# Altium footprint library Specific_Manufacturers.PcbLib: 21 footprints (part 1 of 2)
Each footprint in its own frame and in the unit in brackets; x right, y up, seen from the top. Pads: shape width x height; smd on the part's side, far side on the other; paste and mask are expansions set on the pad; w line width, h text height; cw(c..) or ccw(c..) is an arc to the next point about the centre after c.
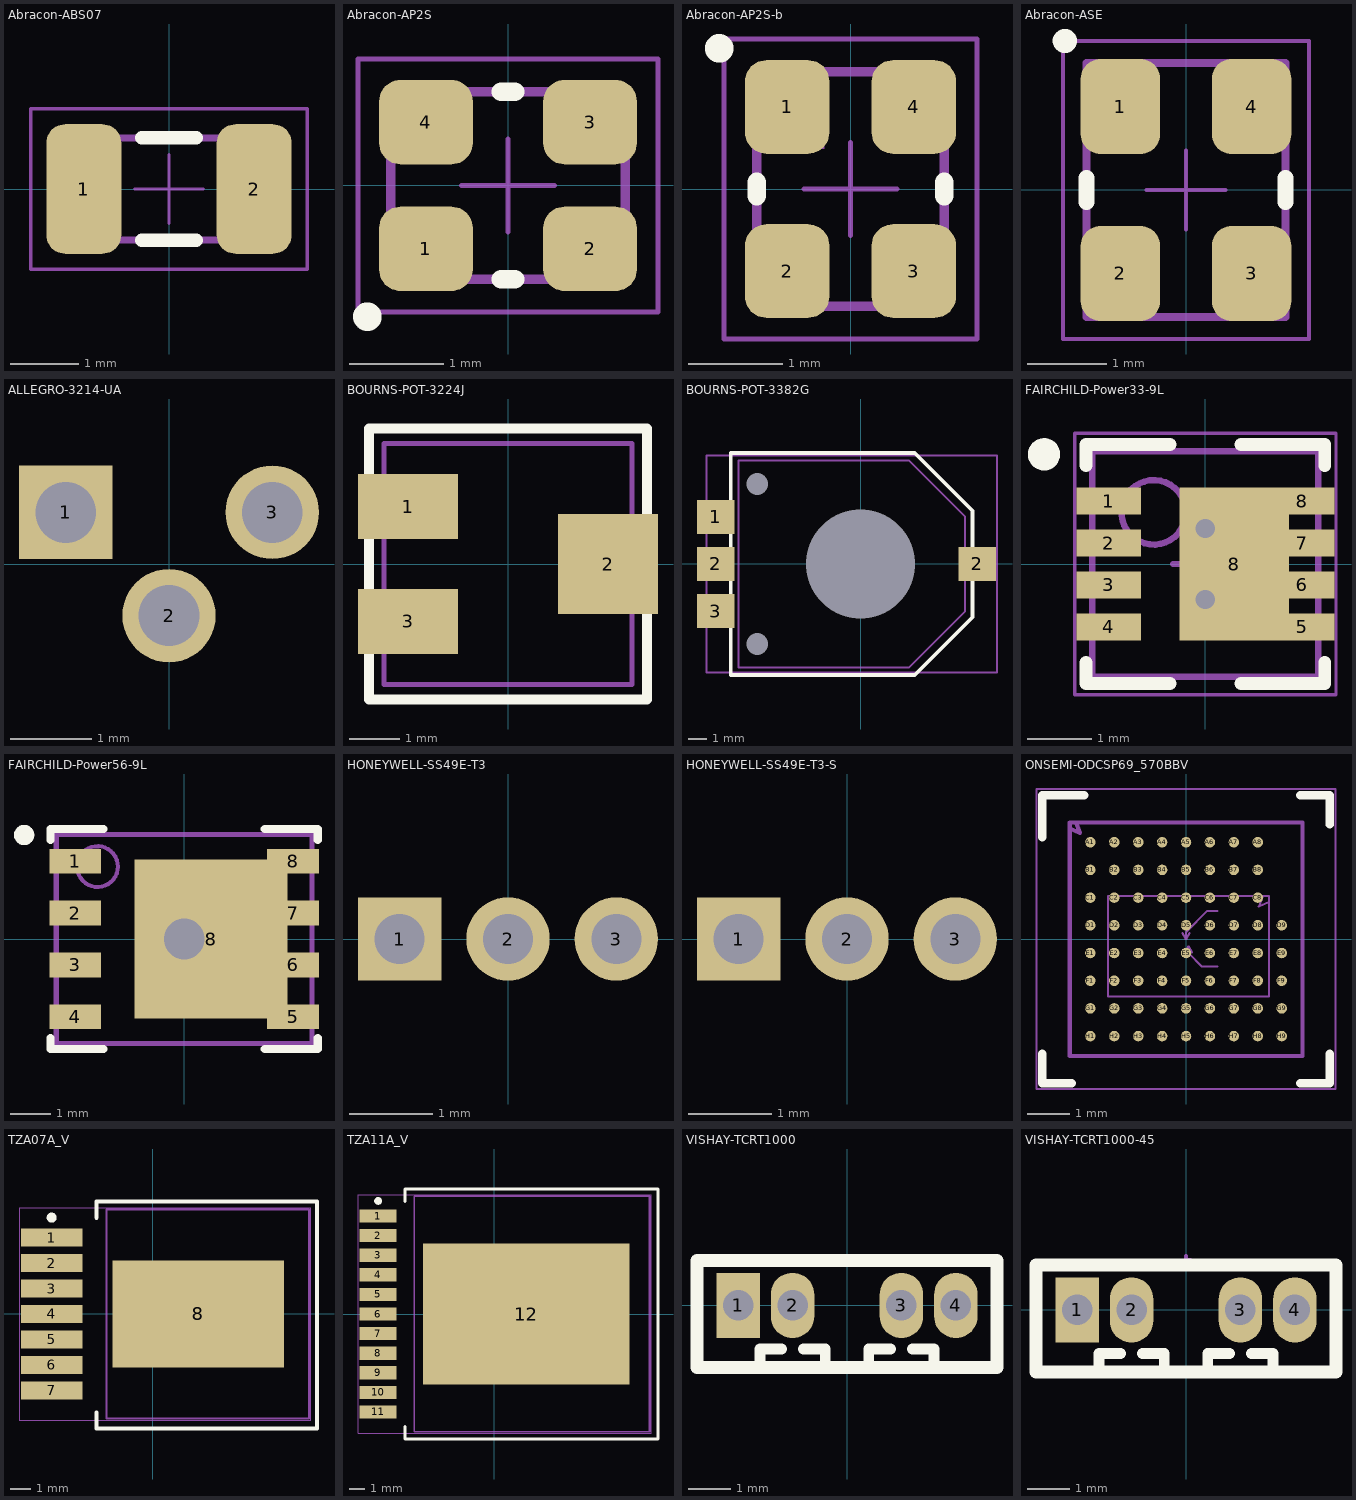
[diagram p0: the footprints below, top view; thin cyan lines are the x and y axes]

## Abracon-ABS07 [mm] "LOW PROFILE CRYSTAL"
height 0.9
pads (3):
  rrect50% 1.1x1.9 smd: 1(-1.25,0) 2(1.25,0)
  rect 0.6x1.3 on Mech3: ""(-1.2,0)
Top Overlay:
  lines w0.2: -0.4,-0.75 0.4,-0.75 ; -0.4,0.75 0.4,0.75
TopBody:
  lines w0.1: -1.6,-0.75 1.6,-0.75 1.6,0.75 -1.6,0.75 -1.6,-0.75
TopCourtyard:
  lines w0.05: -0.5,0 0,0 ; 0,-0.5 0,0 ; 0,0.5 0,0 ; 0.5,0 0,0 ; -2.025,-1.175 2.025,-1.175 2.025,1.175 -2.025,1.175 -2.025,-1.175
3D body: height 0.9, standoff 0, extent -1.6,-0.75 1.6,0.75

## Abracon-AP2S [mm] "Programmable Crystal Oscillator"
height 0.9
pads (4):
  rrect50% 1x0.9 smd: 1(-0.875,-0.675) 2(0.875,-0.675) 3(0.875,0.675) 4(-0.875,0.675)
Top Overlay:
  circle w0.254: c-1.5,-1.4 r0.025
  lines w0.2: -0.075,-1 0.075,-1 ; -0.075,1 0.075,1
TopBody:
  lines w0.1: -1.25,-1 1.25,-1 1.25,1 -1.25,1 -1.25,-1
TopCourtyard:
  lines w0.05: -0.5,0 0.5,0 ; 0,-0.5 0,0.5 ; -1.6,-1.35 1.6,-1.35 1.6,1.35 -1.6,1.35 -1.6,-1.35
3D body: height 0.9, standoff 0, extent -1.25,-1 1.25,1

## Abracon-AP2S-b [mm] "Programmable Crystal Oscillator, version b : To have the pin 1 at the right position"
height 0.9
pads (5):
  rrect50% 0.9x1 smd: 1(-0.675,0.875) 2(-0.675,-0.875) 3(0.675,-0.875) 4(0.675,0.875)
  rect 0.7x0.8 on Mech3: ""(-0.625,0.825)
Top Overlay:
  circle w0.254: c-1.4,1.5 r0.025
  lines w0.2: -1,-0.075 -1,0.075 ; 1,-0.075 1,0.075
TopBody:
  lines w0.1: -1,-1.25 -1,1.25 1,1.25 1,-1.25 -1,-1.25
TopCourtyard:
  lines w0.05: -0.5,0 0.5,0 ; 0,-0.5 0,0.5 ; -1.35,-1.6 1.35,-1.6 1.35,1.6 -1.35,1.6 -1.35,-1.6
3D body: height 0.9, standoff 0, extent -1,-1.25 1,1.25

## Abracon-ASE [mm] "Crystal Clock Oscillator"
height 1
pads (5):
  rrect50% 1x1.2 smd: 1(-0.825,1.05) 2(-0.825,-1.05) 3(0.825,-1.05) 4(0.825,1.05)
  rect 0.65x0.9 on Mech3: ""(-0.825,1.05)
Top Overlay:
  circle w0.254: c-1.525,1.875 r0.025
  lines w0.2: -1.25,-0.15 -1.25,0.15 ; 1.25,-0.15 1.25,0.15
TopBody:
  lines w0.1: -1.25,-1.6 1.25,-1.6 1.25,1.6 -1.25,1.6 -1.25,-1.6
TopCourtyard:
  lines w0.05: -0.5,0 0.5,0 ; 0,-0.5 0,0.5 ; -1.55,-1.875 -1.55,1.875 1.55,1.875 1.55,-1.875 -1.55,-1.875
3D body: height 1, standoff 0, extent -1.25,-1.6 1.25,1.6

## ALLEGRO-3214-UA [mm] "Micropower ultra-sensitive Hall-Effect Switches, UA package"
pads (3):
  rect 1.15x1.15 hole 0.75: 1(-1.27,0.635)
  round 1.15 hole 0.75: 2(0,-0.635) 3(1.27,0.635)
TopBody:
  lines w0.01: -1.51,0.415 -1.51,0.855 -1.03,0.855 -1.03,0.415 -1.51,0.415 ; -0.24,-0.855 0.24,-0.855 0.24,-0.415 -0.24,-0.415 -0.24,-0.855 ; 1.03,0.415 1.03,0.855 1.51,0.855 1.51,0.415 1.03,0.415
3D body "A3214.STEP": height 4.5, standoff -0.74, extent -2.085,-0.855 2.085,2.975
3D body: height 0.2, standoff -12, extent -0.24,-0.855 0.24,-0.415
3D body: height 0.2, standoff -12, extent -1.51,0.415 -1.03,0.855
3D body: height 0.2, standoff -12, extent 1.03,0.415 1.51,0.855

## BOURNS-POT-3224J [mm] "3224J- 4 mm SMD Trimpot Potentiometer"
pads (3):
  rect 2x1.3 smd: 1(-2,1.15) 3(-2,-1.15)
  rect 2x2 smd: 2(2,0)
Top Overlay:
  lines w0.2: -2.777,-2.713 -2.777,2.713 2.777,2.713 2.777,-2.713 -2.777,-2.713
TopBody:
  lines w0.1: -2.477,-2.413 -2.477,2.413 2.476,2.413 2.476,-2.413 -2.477,-2.413
TopCourtyard:
  lines w0.1: -2.751,-2.688 2.751,-2.688 2.751,2.688 -2.751,2.688 -2.751,-2.688
3D body "BournsPot1563553.stp": height 3.74, standoff 0.02, extent -2.477,-2.413 2.476,2.413

## BOURNS-POT-3382G [mm] "3382 - 12 mm Rotary Position Sensor"
pads (7):
  rect 2x1.8 smd: 1(-7.7,2.5) 2(-7.7,0) 2(6.2,0) 3(-7.7,-2.5)
  round 0 hole 1.15 unplated mask+0.7: S(-5.49,-4.25) S(-5.49,4.25)
  round 0 hole 5.8 unplated mask+3.1: S(0,0)
Top Overlay:
  lines w0.2: -6.9,-5.9 2.875,-5.9 5.94,-2.835 5.94,2.835 2.875,5.9 -6.9,5.9 -6.9,-5.9
TopBody:
  lines w0.1: -6.5,-5.5 -6.5,5.5 2.575,5.5 5.54,2.535 5.54,-2.535 2.575,-5.5 -6.5,-5.5
TopCourtyard:
  lines w0.1: -8.205,-5.775 7.245,-5.775 7.245,5.775 -8.205,5.775 -8.205,-5.775
3D body "06-potentiometre.stp": height 2.11, standoff 0, extent -7.93,-5.5 6.97,5.5

## FAIRCHILD-Power33-9L [mm] "QFN, 8-Leads, Body 3.30x3.30mm, Pitch 0.65mm, Thermal Pad, IPC High Density"
height 0.8
pads (9):
  rect 1x0.42 smd: 1(-1.5,0.975) 2(-1.5,0.325) 3(-1.5,-0.325) 4(-1.5,-0.975) 5(1.5,-0.975) 6(1.5,-0.325) 7(1.5,0.325) 8(1.5,0.975)
  rect 1.7x2.37 smd: 8(0.45,0)
via 0,-0.55 diameter 0.6 hole 0.3
via 0,0.55 diameter 0.6 hole 0.3
Top Overlay:
  circle w0.25: c-2.5,1.7 r0.125
  lines w0.2: -1.85,-1.525 -1.85,-1.85 -0.55,-1.85 ; -1.85,1.525 -1.85,1.85 -0.55,1.85 ; 0.55,-1.85 1.85,-1.85 1.85,-1.525 ; 0.55,1.85 1.85,1.85 1.85,1.525
M-CAD:
  lines w0.1: 0,-0.4 0,0 0.55,0 0.55,-0.4 0,-0.4
TopBody:
  circle w0.1: c-0.8,0.8 r0.5
  lines w0.1: 1.751,-0.525 1.751,1.175 ; -1.75,-1.75 -1.75,1.75 1.75,1.75 1.75,-1.75 -1.75,-1.75
TopCourtyard:
  lines w0.05: -2.025,-2.025 2.025,-2.025 2.025,2.025 -2.025,2.025 -2.025,-2.025
  lines w0.1: -0.5,0 0.5,0 ; 0,-0.5 0,0.5
3D body: height 0.2, standoff 0, extent -1.75,-1.75 1.75,1.75
3D body: height 0.8, standoff 0.19, extent -1.6,-1.61 1.6,1.6
3D body: height 0.2, standoff 0, extent -1.76,0.775 -1.21,1.175
3D body: height 0.2, standoff 0, extent -1.76,0.125 -1.21,0.525
3D body: height 0.2, standoff 0, extent -1.76,-0.525 -1.21,-0.125
3D body: height 0.2, standoff 0, extent -1.76,-1.175 -1.21,-0.775
3D body: height 0.2, standoff 0, extent -0.35,-1.175 1.751,1.175

## FAIRCHILD-Power56-9L [mm] "QFN, 8-Leads, Body 6.25x5.10mm, Pitch 1.27mm, Thermal Pad, IPC High Density"
height 1.1
pads (9):
  rect 1.27x0.61 smd: 1(-2.67,1.905) 2(-2.67,0.635) 3(-2.67,-0.635) 4(-2.67,-1.905) 5(2.67,-1.905) 6(2.67,-0.635) 7(2.67,0.635) 8(2.67,1.905)
  rect 3.75x3.91 smd: 8(0.66,0)
via 0,0 diameter 1.4 hole 1
Top Overlay:
  circle w0.25: c-3.925,2.55 r0.125
  lines w0.2: -3.275,-2.425 -3.275,-2.7 -1.975,-2.7 ; -3.275,2.425 -3.275,2.7 -1.975,2.7 ; 1.975,-2.7 3.275,-2.7 3.275,-2.425 ; 1.975,2.7 3.275,2.7 3.275,2.425
TopBody:
  circle w0.1: c-2.125,1.775 r0.5
  lines w0.1: -3.125,-2.55 -3.125,2.55 3.125,2.55 3.125,-2.55 -3.125,-2.55
TopCourtyard:
  lines w0.05: -3.175,-2.6 -3.175,2.6 3.175,2.6 3.175,-2.6 -3.175,-2.6
  lines w0.1: -1,0 0,0 ; 0,-1 0,0 ; 0,1 0,0 ; 1,0 0,0
3D body: height 0.3, standoff 0, extent -1.165,-1.93 2.685,1.93
3D body: height 0.3, standoff 0, extent -3.125,0.405 -2.415,0.865
3D body: height 1.1, standoff 0.05, extent -3.12,-2.545 3.12,2.545
3D body: height 0.3, standoff 0, extent -3.125,-0.865 -2.415,-0.405
3D body: height 0.3, standoff 0, extent -3.125,1.675 -2.415,2.135
3D body: height 0.3, standoff 0, extent -3.125,-2.135 -2.415,-1.675
3D body: height 0.3, standoff 0, extent 2.415,-2.135 3.125,-1.675
3D body: height 0.3, standoff 0, extent 2.415,1.675 3.125,2.135
3D body: height 0.3, standoff 0, extent 2.415,-0.865 3.125,-0.405
3D body: height 0.3, standoff 0, extent 2.415,0.405 3.125,0.865

## HONEYWELL-SS49E-T3 [mm] "SS49 Hall-Effect Sensors' series - Style T3"
pads (3):
  rect 1x1 hole 0.6: 1(-1.3,0)
  round 1 hole 0.6: 2(0,0) 3(1.3,0)
TopBody:
  lines w0.01: -1.49,-0.15 -1.49,0.15 -1.11,0.15 -1.11,-0.15 -1.49,-0.15 ; -0.19,-0.15 0.19,-0.15 0.19,0.15 -0.19,0.15 -0.19,-0.15 ; 1.11,-0.15 1.11,0.15 1.49,0.15 1.49,-0.15 1.11,-0.15
3D body "SS49E.STEP": height 18.1, standoff -0.99, extent -2.05,-3.223 2.05,0.7
3D body: height 0.2, standoff -12, extent -0.19,-0.15 0.19,0.15
3D body: height 0.2, standoff -12, extent -1.49,-0.15 -1.11,0.15
3D body: height 0.2, standoff -12, extent 1.11,-0.15 1.49,0.15

## HONEYWELL-SS49E-T3-S [mm] "Short SS49 Hall-Effect Sensors' series - Style T3 : 1mm instead 14.99"
pads (3):
  rect 1x1 hole 0.6: 1(-1.3,0)
  round 1 hole 0.6: 2(0,0) 3(1.3,0)
TopBody:
  lines w0.01: -1.49,-0.15 -1.11,-0.15 -1.11,0.15 -1.49,0.15 -1.49,-0.15 ; -0.19,-0.15 -0.19,0.15 0.19,0.15 0.19,-0.15 -0.19,-0.15 ; 1.11,-0.15 1.49,-0.15 1.49,0.15 1.11,0.15 1.11,-0.15
3D body: height 2, standoff -1, extent 1.11,-0.15 1.49,0.15
3D body: height 2, standoff -1, extent -1.49,-0.15 -1.11,0.15
3D body: height 2, standoff -1, extent -0.19,-0.15 0.19,0.15
3D body "SS49E-S.STEP": height 4.1, standoff -1, extent -2.05,-0.91 2.05,0.69

## ONSEMI-ODCSP69_570BBV [mm] "ODCSP69 5.545x5.565, CASE 570BV, ISSUE B"
height 0.77
pads (69):
  round 0.25 smd mask+0.065: A1(-2.28,2.31) A2(-1.71,2.31) A3(-1.14,2.31) A4(-0.57,2.31) A5(0,2.31) A6(0.57,2.31) A7(1.14,2.31) A8(1.71,2.31) B1(-2.28,1.65) B2(-1.71,1.65) B3(-1.14,1.65) B4(-0.57,1.65) B5(0,1.65) B6(0.57,1.65) B7(1.14,1.65) B8(1.71,1.65) C1(-2.28,0.99) C2(-1.71,0.99) C3(-1.14,0.99) C4(-0.57,0.99) C5(0,0.99) C6(0.57,0.99) C7(1.14,0.99) C8(1.71,0.99) D1(-2.28,0.33) D2(-1.71,0.33) D3(-1.14,0.33) D4(-0.57,0.33) D5(0,0.33) D6(0.57,0.33) D7(1.14,0.33) D8(1.71,0.33) D9(2.28,0.33) E1(-2.28,-0.33) E2(-1.71,-0.33) E3(-1.14,-0.33) E4(-0.57,-0.33) E5(0,-0.33) E6(0.57,-0.33) E7(1.14,-0.33) E8(1.71,-0.33) E9(2.28,-0.33) F1(-2.28,-0.99) F2(-1.71,-0.99) F3(-1.14,-0.99) F4(-0.57,-0.99) F5(0,-0.99) F6(0.57,-0.99) F7(1.14,-0.99) F8(1.71,-0.99) F9(2.28,-0.99) G1(-2.28,-1.65) G2(-1.71,-1.65) G3(-1.14,-1.65) G4(-0.57,-1.65) G5(0,-1.65) G6(0.57,-1.65) G7(1.14,-1.65) G8(1.71,-1.65) G9(2.28,-1.65) H1(-2.28,-2.31) H2(-1.71,-2.31) H3(-1.14,-2.31) H4(-0.57,-2.31) H5(0,-2.31) H6(0.57,-2.31) H7(1.14,-2.31) H8(1.71,-2.31) H9(2.28,-2.31)
Top Overlay:
  lines w0.2: -3.423,-2.733 -3.423,-3.433 -2.722,-3.433 ; -3.423,2.432 -3.423,3.433 -2.423,3.433 ; 2.722,3.433 3.423,3.433 3.423,2.733 ; 2.723,-3.433 3.422,-3.433 3.422,-2.732
TopBody:
  lines w0.05: 1.833,1.029 1.734,0.781 1.982,0.88 ; -1.858,-1.371 -1.858,1.029 1.982,1.029 1.982,-1.371 -1.858,-1.371
  lines w0.1: -2.772,2.634 -2.525,2.535 -2.624,2.782 ; -2.772,-2.782 -2.772,2.782 2.772,2.782 2.772,-2.782 -2.772,-2.782
TopCourtyard:
  lines w0.05: -0.082,0.143 0,0 ; -0.021,-0.314 0.062,-0.171 ; 0.082,0.143 0,0 ; 0.144,-0.314 0.062,-0.171 ; 0.75,-0.65 0.376,-0.65 0.062,-0.336 0.062,-0.171 ; 0.75,0.675 0.51,0.675 0,0.165 0,0 ; -3.563,-3.571 -3.563,3.579 3.562,3.579 3.562,-3.571 -3.563,-3.571
  text "Optical" at 0.85,-0.825 h0.5
  text "Mechanical" at 0.875,0.5 h0.5
3D body: height 0.77, standoff 0.1, extent -2.773,-2.783 2.772,2.782
3D body: height 0.77, standoff 0.1, extent -1.858,-1.371 1.982,1.029

## TZA07A_V [mm] "D2-PAK, 8-Leads, Body 9.9x10.2mm, Pitch 1.27mm, Lead Span 13.8mm, NSC Recommended"
height 4.67
pads (8):
  rect 3.06x0.89 smd: 1(-5.03,3.81) 2(-5.03,2.54) 3(-5.03,1.27) 4(-5.03,0) 5(-5.03,-1.27) 6(-5.03,-2.54) 7(-5.03,-3.81)
  rect 8.54x5.35 smd paste-10: 8(2.281,0)
Top Overlay:
  circle w0.25: c-5.03,4.805 r0.125
  lines w0.2: -2.8,-4.9 -2.8,-5.7 8.2,-5.7 8.2,5.6 -2.8,5.6 -2.8,4.8
Top Paste:
  rectangle: -1.5,-2 2,2
  rectangle: 2.5,-2 6,2
Top Solder:
  rectangle: -2.799,-5.7 8.301,5.7
TopBody:
  lines w0.1: -2.3,-5.2 -2.3,5.2 7.801,5.2 7.801,-5.2 -2.3,-5.2
TopCourtyard:
  lines w0.05: -6.659,-5.3 -6.66,5.3 7.9,5.3 7.9,-5.3 -6.66,-5.3
  lines w0.1: -0.5,0 0.5,0 ; 0,-0.5 0,0.5
3D body: height 4.67, standoff 0, extent -2.3,-5.2 7.801,5.2

## TZA11A_V [mm] "TO, 12-Leads, Body 15x15mm, Pitch 1.27mm, Lead Span 17.8mm, NSC Recommended"
height 6
pads (12):
  rect 2.41x0.86 smd: 1(-7.54,6.35) 2(-7.54,5.08) 3(-7.54,3.81) 4(-7.54,2.54) 5(-7.54,1.27) 6(-7.54,0) 7(-7.54,-1.27) 8(-7.54,-2.54) 9(-7.54,-3.81) 10(-7.54,-5.08) 11(-7.54,-6.35)
  rect 13.37x9.126 smd paste-10: 12(2.06,0)
Top Overlay:
  circle w0.25: c-7.54,7.33 r0.125
  lines w0.2: -5.8,-7.3 -5.8,-8.1 10.6,-8.1 10.6,8.1 -5.8,8.1 -5.8,7.3
Top Paste:
  rectangle: 2.5,0.5 7.5,3.5
  rectangle: -3.5,-3.5 1.5,-0.5
  rectangle: -3.5,0.5 1.5,3.5
  rectangle: 2.5,-3.5 7.5,-0.5
Top Solder:
  rectangle: -5.7,-8.13 10.55,8.13
TopBody:
  lines w0.1: -5.2,-7.625 10.05,-7.625 10.05,7.625 -5.2,7.625 -5.2,-7.625
TopCourtyard:
  lines w0.05: -8.842,-7.725 10.148,-7.725 10.148,7.725 -8.842,7.725 -8.842,-7.725
  lines w0.1: -0.5,0 0.5,0 ; 0,-0.5 0,0.5
3D body: height 6, standoff 0, extent -5.2,-7.625 10.05,7.625

## VISHAY-TCRT1000 [mil]
pads (4):
  rect 40x60 hole 28: 1(-100,0)
  oval 40x60 hole 28: 2(-50,0) 3(50,0) 4(100,0)
Top Overlay:
  lines w10: -80,-57.09 -80,-40 -60,-40 ; -40,-40 -20,-40 -20,-57.09 ; 20,-57.09 20,-40 40,-40 ; 60,-40 80,-40 80,-57.09
  lines w12: -137.8,-57.09 137.8,-57.09 137.8,41.34 -137.8,41.34 -137.8,-57.09
3D body "TCRT1000-S.STEP": height 248.03, standoff -27.56, extent -141.73,-57.09 141.73,41.34

## VISHAY-TCRT1000-45 [mil] "45 opposite version"
pads (4):
  rect 40x60 hole 28: 1(-100,0)
  oval 40x60 hole 28: 2(-50,0) 3(50,0) 4(100,0)
Top Overlay:
  lines w10: -80,-57.09 -80,-40 -60,-40 ; -40,-40 -20,-40 -20,-57.09 ; 20,-57.09 20,-40 40,-40 ; 60,-40 80,-40 80,-57.09
  lines w12: -137.8,-57.09 -137.8,41.34 137.8,41.34 137.8,-57.09 -137.8,-57.09
TopBody:
  lines w0.39: -109.84,-5.9 -109.84,5.91 -90.15,5.91 -90.15,-5.9 -109.84,-5.9 ; -59.84,-5.9 -40.15,-5.9 -40.15,5.91 -59.84,5.91 -59.84,-5.9 ; 40.16,-5.9 40.16,5.91 59.85,5.91 59.85,-5.9 40.16,-5.9 ; 90.16,-5.9 90.16,5.91 109.85,5.91 109.85,-5.9 90.16,-5.9
  lines w3.94: 0,49.61 0,45.67 3.94,45.67
3D body: height 7.87, standoff -47.24, extent 90.16,-5.9 109.85,5.91
3D body: height 7.87, standoff -47.24, extent 40.16,-5.9 59.85,5.91
3D body: height 7.87, standoff -47.24, extent -109.84,-5.9 -90.15,5.91
3D body: height 7.87, standoff -47.24, extent -59.84,-5.9 -40.15,5.91
3D body "TCRT1000-45.STEP": height 194.98, standoff -77.68, extent -141.72,-80.83 141.74,191.83